# Altium schematic symbol library BTS443P.SchLib: 1 symbol
Pins are listed as number, name and electrical type; pins without a type are passive.

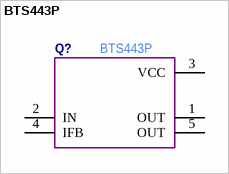
[diagram p0: symbol BTS443P]

## BTS443P
designator Q?  Manufacturer Part Number: BTS443P  (hidden comment: *)
pins: 1 OUT, 2 IN, 3 VCC, 4 IFB, 5 OUT